# Altium footprint library CQCC-52.PcbLib: 1 footprints
Each footprint in its own frame and in the unit in brackets; x right, y up, seen from the top. Pads: shape width x height; smd on the part's side, far side on the other; paste and mask are expansions set on the pad; w line width, h text height; cw(c..) or ccw(c..) is an arc to the next point about the centre after c.
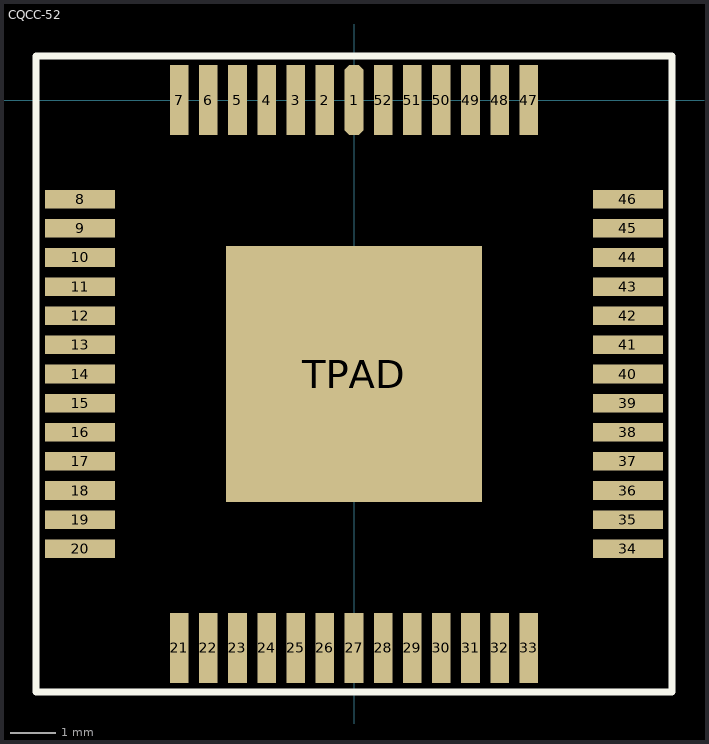
[diagram p0: the footprint, top view; thin cyan lines are the x and y axes]

## CQCC-52 [mil]
pads (53):
  oct 16x60 smd: 1(0,0)
  rect 16x60 smd: 2(-25,0) 3(-50,0) 4(-75,0) 5(-100,0) 6(-125,0) 7(-150,0) 21(-150,-470) 22(-125,-470) 23(-100,-470) 24(-75,-470) 25(-50,-470) 26(-25,-470) 27(0,-470) 28(25,-470) 29(50,-470) 30(75,-470) 31(100,-470) 32(125,-470) 33(150,-470) 47(150,0) 48(125,0) 49(100,0) 50(75,0) 51(50,0) 52(25,0)
  rect 60x16 smd: 8(-235,-85) 9(-235,-110) 10(-235,-135) 11(-235,-160) 12(-235,-185) 13(-235,-210) 14(-235,-235) 15(-235,-260) 16(-235,-285) 17(-235,-310) 18(-235,-335) 19(-235,-360) 20(-235,-385) 34(235,-385) 35(235,-360) 36(235,-335) 37(235,-310) 38(235,-285) 39(235,-260) 40(235,-235) 41(235,-210) 42(235,-185) 43(235,-160) 44(235,-135) 45(235,-110) 46(235,-85)
  rect 220x220 smd: TPAD(0,-235)
TopOverlay:
  lines w6: -273,-508 273,-508 273,38 -273,38 -273,-508